# Altium schematic symbol library TSAL_PL.SchLib: 35 symbols (part 2 of 2)
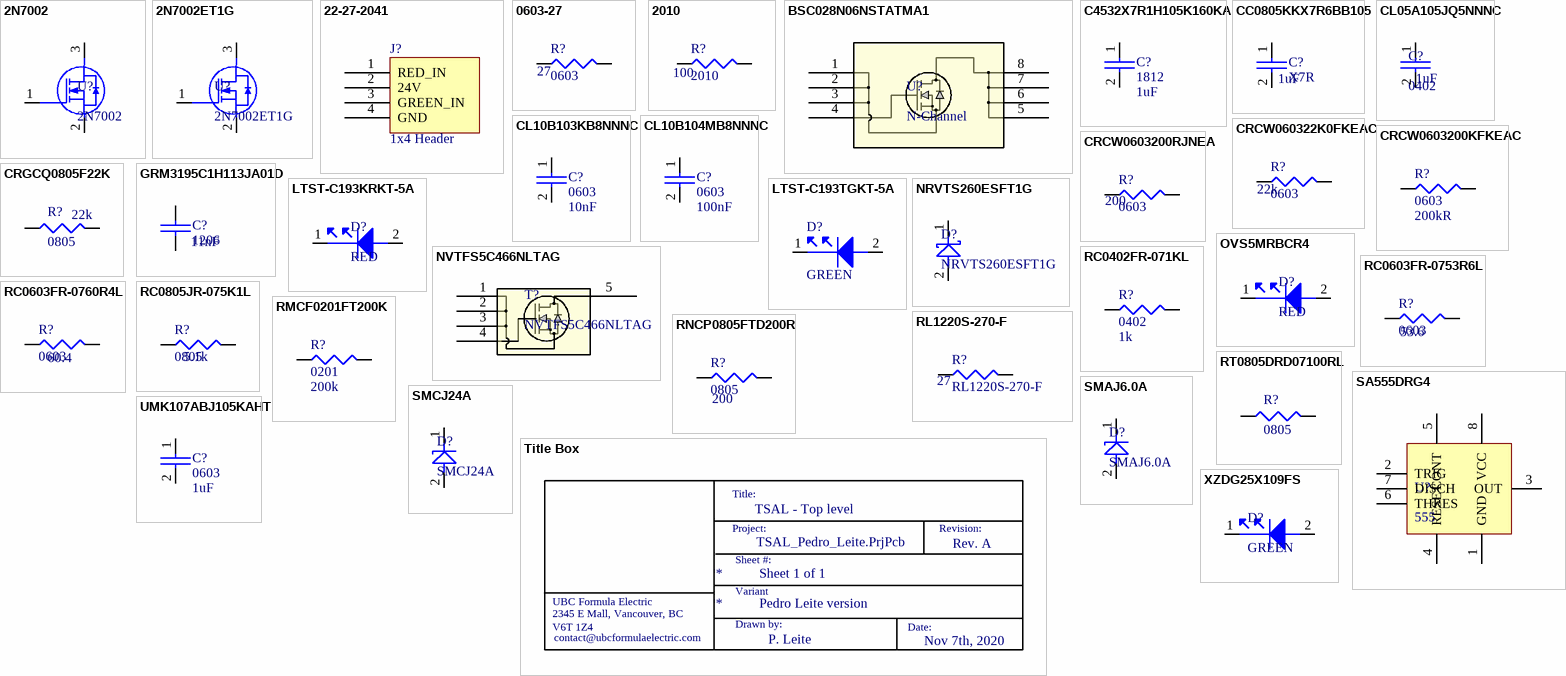
[diagram p1: symbols 2N7002 to XZDG25X109FS]

## RMCF0201FT200K
designator R?, comment 0201  Resistance: 200k
Res Thick Film 0201 200K Ohm 1% 0.05W(1/20W) ±200ppm/C Pad SMD Automotive T/R; Manufacturer: Stackpole Electronics; Manufacturer Part Number: RMCF0201FT200K; Max Power Dissipation: 50mW; Temperature Coefficient: 200ppm/°C; Supplier 1: Digi-Key; RoHS: Yes; Category: Chip SMD Resistors; Stock 1: 71019; Pricing 1: 1=0.10000, 10=0.02300, 100=0.00940, 1000=0.00424, 2500=0.00368, 5000=0.00304 (USD); Mount: Surface Mount; Case/Package: 0201; Case Code (Imperial): 0201; Contact Plating: Tin,Matte; Case Code (Metric): 0603; Min Operating Temperature: -55°C; Max Operating Temperature: 125°C; Resistor Type: Thick Film; Number of Terminations: 2; Package Quantity: 10000; Packaging: Tape and Reel; Tolerance: 1%; Length: 0.024inch; Height: 0.009inch; Width: 0.012inch; Radiation Hardening: No; ComponentLink1URL: https://www.seielect.com/catalog/SEI-RMCF_RMCP.pdf?src-supplier=Avnet; ComponentLink1Description: https://www.seielect.com/catalog/SEI-RMCF_RMCP.pdf?src-supplier=Avnet; ComponentLink2URL: https://www.seielect.com/catalog/SEI-Packaging.pdf?src-supplier=Digi-Key; ComponentLink2Description: https://www.seielect.com/catalog/SEI-Packaging.pdf?src-supplier=Digi-Key; ComponentLink3URL: https://www.seielect.com/Catalog/SEI-RMCF_RMCP.pdf?src-supplier=Digi-Key; ComponentLink3Description: https://www.seielect.com/Catalog/SEI-RMCF_RMCP.pdf?src-supplier=Digi-Key; ComponentLink4URL: http://www.seielect.com/Catalog/SEI-RMCF_RMCP.pdf?src-supplier=Digi-Key; ComponentLink4Description: http://www.seielect.com/Catalog/SEI-RMCF_RMCP.pdf?src-supplier=Digi-Key; Supplier Part Number 1: RMCF0201FT200KCT-ND
footprint R0201
pins: 1, 2

## RNCP0805FTD200R
designator R?, comment 0805  Resistance: 200
RES SMD 200 OHM 1% 1/4W 0805; Manufacturer: Stackpole Electronics; Manufacturer Part Number: RNCP0805FTD200R; Max Power Dissipation: 250mW; Temperature Coefficient: 100ppm/°C; Supplier 1: Digi-Key; RoHS: Yes; Category: Chip SMD Resistors; Stock 1: 112561; Pricing 1: 1=0.10000, 10=0.07000, 100=0.02830, 1000=0.01272, 2500=0.01104 (USD); Mount: Surface Mount; Case/Package: 0805; Case Code (Metric): 2012; Case Code (Imperial): 0805; Min Operating Temperature: -55°C; Max Operating Temperature: 155°C; Packaging: Tape and Reel; Resistor Type: Thin Film; Number of Terminations: 2; Tolerance: 1%; Features: Moisture Resistant,Anti-Sulfur; Length: 0.079inch; Height: 0.024inch; Width: 0.049inch; ComponentLink1URL: http://www.seielect.com/Catalog/SEI-rncp.pdf?src-supplier=Digi-Key; ComponentLink1Description: http://www.seielect.com/Catalog/SEI-rncp.pdf?src-supplier=Digi-Key; ComponentLink2URL: https://www.seielect.com/Catalog/SEI-rncp.pdf?src-supplier=Avnet; ComponentLink2Description: https://www.seielect.com/Catalog/SEI-rncp.pdf?src-supplier=Avnet; ComponentLink3URL: https://www.seielect.com/catalog/SEI-Packaging.pdf?src-supplier=Digi-Key; ComponentLink3Description: https://www.seielect.com/catalog/SEI-Packaging.pdf?src-supplier=Digi-Key; Supplier Part Number 1: RNCP0805FTD200RCT-ND
footprint R0805
footprint R0805
pins: 1, 2

## RT0805DRD07100RL
designator R?, comment 0805
RES SMD 100 OHM 0.5% 1/8W 0805; Manufacturer: Yageo; Manufacturer Part Number: RT0805DRD07100RL; Resistance: 100R; Temperature Coefficient: 25ppm/°C; Power Rating: 125mW; Voltage Rating (DC): 150V; Supplier 1: Digi-Key; RoHS: Yes; Category: Chip SMD Resistors; Stock 1: 7222; Pricing 1: 1=0.23000, 10=0.19200, 100=0.07490, 1000=0.03137, 2500=0.02876 (USD); Case/Package: 0805; Contact Plating: Tin,Matte; Case Code (Metric): 2012; Case Code (Imperial): 0805; Min Operating Temperature: -55°C; Max Operating Temperature: 155°C; Tolerance: 0.5%; Resistor Type: Thin Film; Package Quantity: 5000; Packaging: Tape and Reel; Number of Terminations: 2; Max Power Dissipation: 125mW; Features: Moisture Resistant; Length: 0.079inch; Width: 0.049inch; Height: 0.024inch; Radiation Hardening: No; Lead Free: Lead Free; ComponentLink1URL: https://datasheet.ciiva.com/2575/pyu-rt-1-to-0-05-rohs-l-5-2575581.pdf?src-supplier=Digi-Key; ComponentLink1Description: https://datasheet.ciiva.com/2575/pyu-rt-1-to-0-05-rohs-l-5-2575581.pdf?src-supplier=Digi-Key; Supplier Part Number 1: 311-2698-1-ND
footprint 0805 RESISTOR (YAGEO) (Chip Resistor, 2-Leads, Body 2.00x1.25mm, IPC Medium Density)
pins: 1, 2

## SA555DRG4
designator U?, comment 555
IC OSC SGL TIMER 100KHZ 8-SOIC; Manufacturer: Texas Instruments; Manufacturer Part Number: SA555DRG4; Min Supply Voltage: 4.5V; Max Supply Voltage: 16V; Nominal Supply Current: 2mA; Operating Supply Current: 10mA; Number of Timers/Counters: 1; Quiescent Current: 15mA; High Level Output Current: -200mA; Low Level Output Current: 200mA; Supplier 1: Digi-Key; RoHS: Yes; Category: Timers and Oscillators; Stock 1: 1131; Pricing 1: 1=0.39000, 10=0.31500, 25=0.28800, 100=0.21440, 250=0.19432, 500=0.16080, 1000=0.12060 (USD); Mount: Surface Mount; Case/Package: SOIC; Number of Pins: 8; Weight: 0.002561oz; Min Operating Temperature: -40°C; Max Operating Temperature: 85°C; Packaging: Tape and Reel; Package Quantity: 2500; Frequency: 100kHz; Radiation Hardening: No; Lead Free: Lead Free; ComponentLink1URL: https://datasheet.ciiva.com/26943/getdatasheetpartid-624446-26943897.pdf?src-supplier=Verical; ComponentLink1Description: https://datasheet.ciiva.com/26943/getdatasheetpartid-624446-26943897.pdf?src-supplier=Verical; ComponentLink2URL: https://datasheet.ciiva.com/1235/sa555-1235928.pdf?src-supplier=Digi-Key; ComponentLink2Description: https://datasheet.ciiva.com/1235/sa555-1235928.pdf?src-supplier=Digi-Key; ComponentLink3URL: https://datasheet.ciiva.com/14274/se555m-14274518.pdf?src-supplier=Avnet; ComponentLink3Description: https://datasheet.ciiva.com/14274/se555m-14274518.pdf?src-supplier=Avnet; Supplier Part Number 1: 296-48948-1-ND
footprint SOIC-8 (SOIC, 8-Leads, Body 4.91x3.90mm, Pitch 1.27mm, IPC Medium Density)
pins: 1 GND, 2 TRIG, 3 OUT, 4 RESET, 5 CONT, 6 THRES, 7 DISCH, 8 VCC

## SMAJ6.0A
designator D?
In a Pack of 25, Littelfuse SMAJ6.0A, Uni-Directional TVS Diode, 400W, 2-Pin DO-214AC; Direction: Unidirectional; Operating Supply Voltage: 6V; Max Surge Current: 38.8A; Reverse Breakdown Voltage: 66.7V; Number of Unidirectional Channels: 1; Min Breakdown Voltage: 6.67V; Clamping Voltage: 10.3V; Power Line Protection: No; Max Breakdown Voltage: 7.37V; Peak Pulse Current: 4.1A; Test Current: 1mA; Max Power Dissipation: 3.3W; Leakage Current: 1uA; Current: 41A; Voltage: 60V; Supplier 1: Digi-Key; Manufacturer: Littelfuse; Manufacturer Part Number: SMAJ6.0A; RoHS: Yes; Category: TVS Diodes; Stock 1: 50756; Pricing 1: 1=0.36000, 10=0.24800, 100=0.14180, 500=0.10800, 1000=0.07875, 2000=0.07650 (USD); Mount: Surface Mount; Number of Pins: 2; Min Operating Temperature: -55°C; Max Operating Temperature: 150°C; Package Quantity: 5000; Packaging: Tape and Reel; Reverse Standoff Voltage: 6V; Peak Pulse Power: 400W; Breakdown Voltage: 6.67V; Number of Channels: 1; Polarity: Unidirectional; Termination: SMD/SMT; Number of Elements: 1; Power Dissipation: 400W; Voltage Rating (DC): 6V; Resistor Type: Zener; Length: 5.28mm; Width: 2.79mm; Height: 2.29mm; Radiation Hardening: No; REACH SVHC: No SVHC; Lead Free: Lead Free; ComponentLink1URL: https://datasheet.ciiva.com/330/littelfuse-tvs-diode-smaj-datasheet-pdf-330721.pdf?src-supplier=Digi-Key; ComponentLink1Description: https://datasheet.ciiva.com/330/littelfuse-tvs-diode-smaj-datasheet-pdf-330721.pdf?src-supplier=Digi-Key; ComponentLink2URL: https://datasheet.ciiva.com/330/littelfuse-tvs-diode-smaj-datasheet-pdf-330722.pdf?src-supplier=Digi-Key; ComponentLink2Description: https://datasheet.ciiva.com/330/littelfuse-tvs-diode-smaj-datasheet-pdf-330722.pdf?src-supplier=Digi-Key; ComponentLink3URL: https://datasheet.ciiva.com/330/littelfuse-tvs-diode-smaj-datasheet-pdf-330723.pdf?src-supplier=Digi-Key; ComponentLink3Description: https://datasheet.ciiva.com/330/littelfuse-tvs-diode-smaj-datasheet-pdf-330723.pdf?src-supplier=Digi-Key; ComponentLink4URL: https://datasheet.ciiva.com/330/littelfuse-tvs-diode-smaj-datasheet-pdf-330712.pdf?src-supplier=Digi-Key; ComponentLink4Description: https://datasheet.ciiva.com/330/littelfuse-tvs-diode-smaj-datasheet-pdf-330712.pdf?src-supplier=Digi-Key; ComponentLink5URL: https://datasheet.ciiva.com/28473/607617-28473464.pdf?src-supplier=Element14; ComponentLink5Description: https://datasheet.ciiva.com/28473/607617-28473464.pdf?src-supplier=Element14; ComponentLink6URL: https://datasheet.ciiva.com/330/littelfuse-tvs-diode-smaj-datasheet-pdf-330713.pdf?src-supplier=Digi-Key; ComponentLink6Description: https://datasheet.ciiva.com/330/littelfuse-tvs-diode-smaj-datasheet-pdf-330713.pdf?src-supplier=Digi-Key; ComponentLink7URL: https://datasheet.ciiva.com/16391/littelfuse-tvs-diode-smaj-16391801.pdf?src-supplier=Future+Electronics; ComponentLink7Description: https://datasheet.ciiva.com/16391/littelfuse-tvs-diode-smaj-16391801.pdf?src-supplier=Future+Electronics; ComponentLink8URL: https://datasheet.ciiva.com/16487/littelfuse-tvs-diode-smaj-16487499.pdf?src-supplier=Future+Electronics; ComponentLink8Description: https://datasheet.ciiva.com/16487/littelfuse-tvs-diode-smaj-16487499.pdf?src-supplier=Future+Electronics; Supplier Part Number 1: SMAJ6.0ALFCT-ND
footprint LITTELFUSE SMAJ6.0A (TVS DIODE 6V 10.3V DO214AC)
pins: 1, 2

## SMCJ24A
designator D?
LITTELFUSE - SMCJ24A - TVS Diode, TRANSZORB SMCJ Series, Unidirectional, 24 V, 38.9 V, DO-214AB (SMC), 2 Pins; Operating Supply Voltage: 24V; Max Surge Current: 38.6A; Clamping Voltage: 38.9V; Peak Pulse Power: 1.5kW; Number of Channels: 1; Breakdown Voltage: 26.7V; Power Line Protection: No; Max Breakdown Voltage: 29.5V; Test Current: 1mA; Max Reverse Leakage Current: 1uA; Max Power Dissipation: 6.5W; Element Configuration: Single; Supplier 1: Digi-Key; Manufacturer: Littelfuse; Manufacturer Part Number: SMCJ24A; RoHS: Yes; Category: Diodes; Stock 1: 17092; Pricing 1: 1=0.55000, 10=0.43800, 100=0.31250, 500=0.23750, 1000=0.18750 (USD); Mount: Surface Mount; Number of Pins: 2; Min Operating Temperature: -65°C; Max Operating Temperature: 150°C; Packaging: Tape and Reel; Package Quantity: 3000; Polarity: Unidirectional; Voltage Rating (DC): 24V; Direction: Unidirectional; Reverse Breakdown Voltage: 26.7V; Number of Elements: 1; Number of Unidirectional Channels: 1; Reverse Standoff Voltage: 24V; Min Breakdown Voltage: 26.7V; Termination: SMD/SMT; Power Dissipation: 1.5kW; Peak Pulse Current: 38.6A; Leakage Current: 1uA; Resistor Type: Zener; Length: 7.11mm; Width: 6.22mm; Height: 2.417mm; REACH SVHC: No SVHC; Lead Free: Lead Free; ComponentLink1URL: https://datasheet.ciiva.com/341/littelfuse-tvs-diode-smcj-datasheet-pdf-341029.pdf?src-supplier=Digi-Key; ComponentLink1Description: https://datasheet.ciiva.com/341/littelfuse-tvs-diode-smcj-datasheet-pdf-341029.pdf?src-supplier=Digi-Key; ComponentLink2URL: https://datasheet.ciiva.com/8062/littelfuse-tvs-diode-smcj-8062373.pdf?src-supplier=Element14; ComponentLink2Description: https://datasheet.ciiva.com/8062/littelfuse-tvs-diode-smcj-8062373.pdf?src-supplier=Element14; ComponentLink3URL: https://datasheet.ciiva.com/341/littelfuse-tvs-diode-smcj-datasheet-pdf-341030.pdf?src-supplier=Digi-Key; ComponentLink3Description: https://datasheet.ciiva.com/341/littelfuse-tvs-diode-smcj-datasheet-pdf-341030.pdf?src-supplier=Digi-Key; ComponentLink4URL: https://datasheet.ciiva.com/341/littelfuse-tvs-diode-smcj-datasheet-pdf-341031.pdf?src-supplier=Digi-Key; ComponentLink4Description: https://datasheet.ciiva.com/341/littelfuse-tvs-diode-smcj-datasheet-pdf-341031.pdf?src-supplier=Digi-Key; Supplier Part Number 1: SMCJ24ALFCT-ND
footprint LITTELFUSE SMCJ24A (TVS DIODE 24V 38.9V DO214AB)
pins: 1, 2

## Title Box
designator *
text: Title:; TSAL - Top level; Project:; Revision:; TSAL_Pedro_Leite.PrjPcb; Rev. A; Sheet #:; Sheet 1 of 1; Variant; UBC Formula Electric; Pedro Leite version; 2345 E Mall, Vancouver, BC; V6T 1Z4; Drawn by:; Date:; contact@ubcformulaelectric.com; P. Leite; Nov 7th, 2020

## UMK107ABJ105KAHT
designator C?, comment 0603  Capacitance: 1uF
CAP ,MLCC ,0603,50V ,X5R,1uF 10% ,T&R; Manufacturer: Taiyo Yuden; Manufacturer Part Number: UMK107ABJ105KAHT; Supplier 1: Digi-Key; RoHS: Yes; Category: Ceramic Capacitors; Stock 1: 36801; Pricing 1: 1=0.18000, 10=0.12600, 50=0.07560, 100=0.06380, 500=0.04368, 1000=0.03864 (USD); Mount: Surface Mount; Case/Package: 0603; Case Code (Imperial): 0603; Case Code (Metric): 1608; Min Operating Temperature: -55°C; Max Operating Temperature: 85°C; Dielectric: X5R; Voltage Rating: 50V; Voltage Rating (DC): 50V; Tolerance: 10%; Packaging: Tape and Reel; Package Quantity: 4000; Termination: SMD/SMT; Length: 0.063inch; Height: 0.8mm; Width: 0.8mm; Thickness: 0.035inch; Ratings: AEC-Q200; Lead Free: Lead Free; Halogen Free: Halogen Free; ComponentLink1URL: https://datasheet.ciiva.com/18697/mlcc01-hq-e-18697528.pdf?src-supplier=Digi-Key; ComponentLink1Description: https://datasheet.ciiva.com/18697/mlcc01-hq-e-18697528.pdf?src-supplier=Digi-Key; ComponentLink2URL: https://datasheet.ciiva.com/18697/mlcc01-hq-e-18697529.pdf?src-supplier=Digi-Key; ComponentLink2Description: https://datasheet.ciiva.com/18697/mlcc01-hq-e-18697529.pdf?src-supplier=Digi-Key; ComponentLink3URL: https://datasheet.ciiva.com/18697/mlcc01-hq-e-18697530.pdf?src-supplier=Digi-Key; ComponentLink3Description: https://datasheet.ciiva.com/18697/mlcc01-hq-e-18697530.pdf?src-supplier=Digi-Key; Supplier Part Number 1: 587-3501-1-ND
footprint 0603 CAPACITOR (TDK C-SERIES) (Chip Capacitor, 2-Leads, Body 1.60x0.80mm, IPC Medium Density)
pins: 1, 2

## XZDG25X109FS
designator D?, comment GREEN
Led 3.5X2.8 0.5W SMD Green; Manufacturer: SunLED; Manufacturer Part Number: XZDG25X109FS; Lens Color: Colorless; Lens Style: Round,Flat; Lens Transparency: Clear; Luminous Intensity: 6990mcd; Forward Voltage: 3.5V; Test Current: 150mA; Viewing Angle: 120°; Dominant Wavelength: 525nm; Lens Size: 2.5mm; Supplier 1: Digi-Key; RoHS: No; Category: LEDs; Stock 1: 1496; Pricing 1: 1=1.83000, 10=1.61300, 100=0.93630, 500=0.84640, 1000=0.72738 (USD); Mount: Surface Mount; Case/Package: 1411; Color: Green; Case Code (Imperial): 1411; Case Code (Metric): 3528; Packaging: Cut Tape; Length: 3.5mm; Width: 2.8mm; Height: 1.05mm; ComponentLink1URL: http://www.sunledusa.com/products/spec/XZDG25X109FS.pdf?src-supplier=Digi-Key; ComponentLink1Description: http://www.sunledusa.com/products/spec/XZDG25X109FS.pdf?src-supplier=Digi-Key; ComponentLink2URL: https://www.sunledusa.com/products/spec/XZDG25X109FS.pdf?src-supplier=Digi-Key; ComponentLink2Description: https://www.sunledusa.com/products/spec/XZDG25X109FS.pdf?src-supplier=Digi-Key; Supplier Part Number 1: 1497-1345-1-ND
footprint GREEN LED
pins: 1, 2